# Altium footprint library IEEE-802.14.4.PcbLib: 20 footprints (part 1 of 2)
Each footprint in its own frame and in the unit in brackets; x right, y up, seen from the top. Pads: shape width x height; smd on the part's side, far side on the other; paste and mask are expansions set on the pad; w line width, h text height; cw(c..) or ccw(c..) is an arc to the next point about the centre after c.
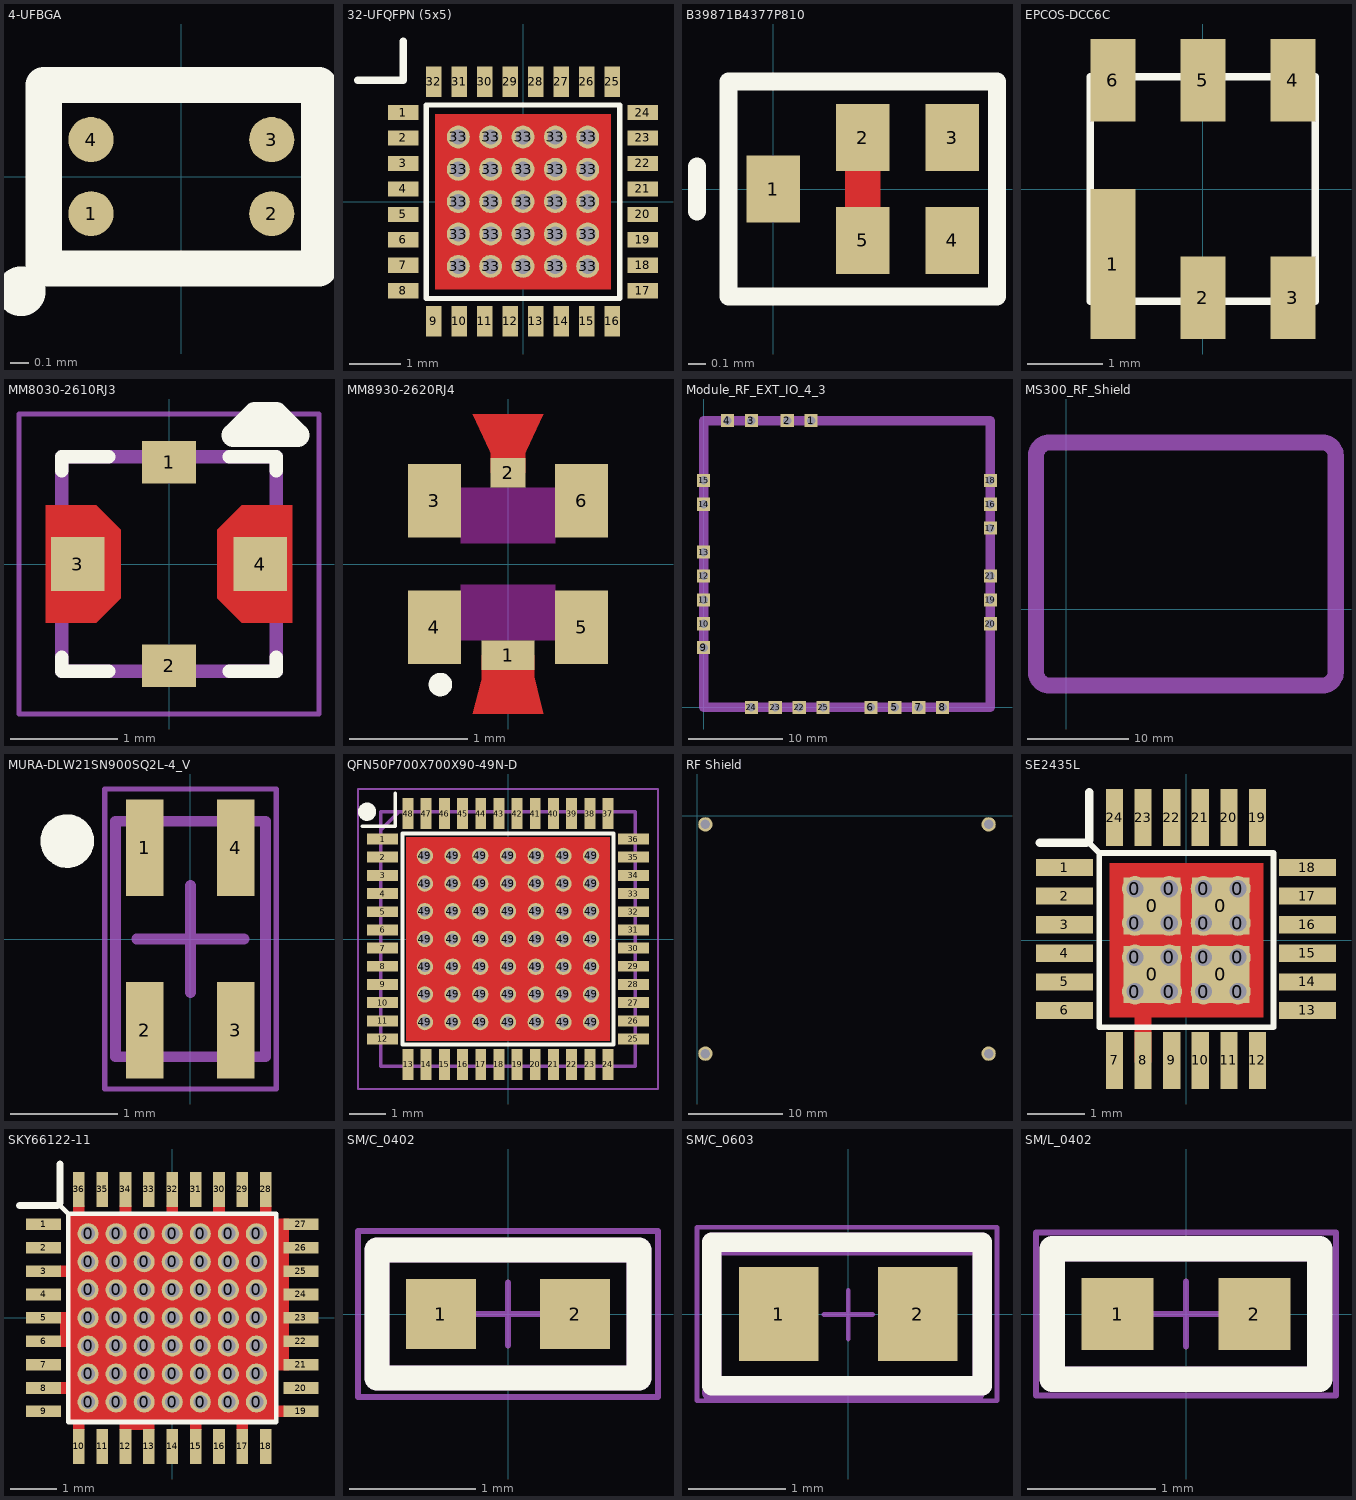
[diagram p0: the footprints below, top view; thin cyan lines are the x and y axes]

## 4-UFBGA [mm] "SiT1552 TCXO CSPBGA"
height 0.6
pads (4):
  round 0.25 smd mask+0.05: 1(-0.5,-0.205) 2(0.5,-0.205) 3(0.5,0.205) 4(-0.5,0.205)
Top Overlay:
  circle w0.254: c-0.889,-0.635 r0.01
  lines w0.2: -0.762,-0.508 -0.762,0.508 0.762,0.508 0.762,-0.508 -0.762,-0.508
3D body "CSP4-TCXO.STEP": height 0.6, standoff 0.01, extent -0.77,-0.42 0.77,0.42

## 32-UFQFPN (5x5) [mm]
pads (57):
  rect 0.6x0.3 smd: 1(-2.35,1.75) 2(-2.35,1.25) 3(-2.35,0.75) 4(-2.35,0.25) 5(-2.35,-0.25) 6(-2.35,-0.75) 7(-2.35,-1.25) 8(-2.35,-1.75) 17(2.35,-1.75) 18(2.35,-1.25) 19(2.35,-0.75) 20(2.35,-0.25) 21(2.35,0.25) 22(2.35,0.75) 23(2.35,1.25) 24(2.35,1.75)
  rect 0.3x0.6 smd: 9(-1.75,-2.35) 10(-1.25,-2.35) 11(-0.75,-2.35) 12(-0.25,-2.35) 13(0.25,-2.35) 14(0.75,-2.35) 15(1.25,-2.35) 16(1.75,-2.35) 25(1.75,2.35) 26(1.25,2.35) 27(0.75,2.35) 28(0.25,2.35) 29(-0.25,2.35) 30(-0.75,2.35) 31(-1.25,2.35) 32(-1.75,2.35)
  round 0.45 hole 0.3: 33(-1.27,-1.27) 33(-1.27,-0.635) 33(-1.27,0) 33(-1.27,0.635) 33(-1.27,1.27) 33(-0.635,-1.27) 33(-0.635,-0.635) 33(-0.635,0) 33(-0.635,0.635) 33(-0.635,1.27) 33(0,-1.27) 33(0,-0.635) 33(0,0) 33(0,0.635) 33(0,1.27) 33(0.635,-1.27) 33(0.635,-0.635) 33(0.635,0) 33(0.635,0.635) 33(0.635,1.27) 33(1.27,-1.27) 33(1.27,-0.635) 33(1.27,0) 33(1.27,0.635) 33(1.27,1.27)
Top Layer:
  rectangle: -1.725,-1.725 1.725,1.725
Top Overlay:
  lines w0.1: -1.9,-1.9 1.9,-1.9 1.9,1.9 -1.9,1.9 -1.9,-1.9
  lines w0.15: -3.239,2.385 -2.35,2.385 -2.35,3.147
3D body "32-UFQFPN-5x5.STEP": height 0.55, standoff 0, extent -2.46,-2.54 2.54,2.46

## B39871B4377P810 [mm]
pads (5):
  rect 0.3x0.375 smd: 1(0,0) 2(0.5,0.287) 3(1,0.288) 4(1,-0.288) 5(0.5,-0.288)
Top Layer:
  rectangle: 0.4,-0.15 0.6,0.175
Top Overlay:
  lines w0.1: -0.425,-0.125 -0.425,0.125 ; -0.25,-0.6 1.25,-0.6 1.25,0.6 -0.25,0.6 -0.25,-0.575 -0.25,-0.6
3D body "B39871B4377P810.stp": height 0.55, standoff 0, extent -0.2,-0.55 1.2,0.55

## EPCOS-DCC6C [mm]
pads (6):
  rect 0.6x2 smd: 1(-1.2,-1)
  rect 0.6x1.1 smd: 2(0,-1.45) 3(1.2,-1.45) 4(1.2,1.45) 5(0,1.45) 6(-1.2,1.45)
Top Overlay:
  lines w0.1: -1.5,-1.5 1.5,-1.5 1.5,1.5 -1.5,1.5 -1.5,-1.5
3D body "DCC6C.STEP": height 1.14, standoff -0.09, extent -1.5,-1.5 1.5,1.5

## MM8030-2610RJ3 [mm]
pads (4):
  rect 0.5x0.4 smd paste-1 mask+0: 1(0,0.95) 2(0,-0.95)
  rect 0.5x0.5 smd paste-1 mask+0: 3(-0.85,0) 4(0.85,0)
Top Layer:
  region: -0.45,0.32 -0.45,-0.32 -0.68,-0.55 -1.15,-0.55 -1.15,0.55 -0.68,0.55
  region: 1.15,-0.55 0.68,-0.55 0.45,-0.32 0.45,0.32 0.68,0.55 1.15,0.55
Top Overlay:
  lines w0.127: -1,-0.869 -1,-1 -0.564,-1 ; -1,0.869 -1,1 -0.564,1 ; 0.564,-1 1,-1 1,-0.869 ; 0.564,1 1,1 1,0.869
  lines w0.22: 0.6,1.2 1.2,1.2 1,1.4 0.8,1.4 0.6,1.2 ; 0.6,1.2 0.6,1.2
Top Paste:
  region: -0.59,0.41 -0.59,-0.41 -0.68,-0.5 -1.1,-0.5 -1.1,0.5 -0.68,0.5
  region: 1.1,-0.5 0.68,-0.5 0.59,-0.41 0.59,0.41 0.68,0.5 1.1,0.5
  region: 0.165,-1.15 -0.165,-1.15 -0.165,-0.82 0.165,-0.82
  region: 0.165,0.82 -0.165,0.82 -0.165,1.15 0.165,1.15
Top Solder:
  region: -0.45,0.32 -0.45,-0.32 -0.68,-0.55 -1.15,-0.55 -1.15,0.55 -0.68,0.55
  region: 1.15,-0.55 0.68,-0.55 0.45,-0.32 0.45,0.32 0.68,0.55 1.15,0.55
  region: 0.25,-1.15 -0.25,-1.15 -0.25,-0.75 0.25,-0.75
  region: 0.25,0.75 -0.25,0.75 -0.25,1.15 0.25,1.15
Mechanical 13:
  lines w0.127: -1,-1 1,-1 1,1 -1,1 -1,-1
Mechanical 15:
  lines w0.05: -1.4,-1.4 1.4,-1.4 1.4,1.4 -1.4,1.4 -1.4,-1.4
3D body "MM8030-2610RJ3--3DModel-STEP-56544.STEP": height 0.9, standoff 0, extent -1,-1.05 1,1.05

## MM8930-2620RJ4 [mm]
pads (6):
  rect 0.45x0.25 smd mask+0: 1(0,-0.775)
  rect 0.3x0.25 smd mask+0: 2(0,0.775)
  rect 0.45x0.625 smd mask+0: 3(-0.625,0.537) 4(-0.625,-0.537) 5(0.625,-0.537) 6(0.625,0.537)
Top Layer:
  rectangle: -0.225,-1.275 0.225,-0.775
  rectangle: -0.15,0.775 0.15,1.275
  region: -0.2,-0.9 -0.2,-1.275 -0.3,-1.275
  region: 0.2,-0.875 0.2,-1.025 0.2,-1.275 0.3,-1.275
  region: -0.15,0.9
  region: 0.125,0.9 0.125,1.275 0.3,1.275
  region: -0.125,0.9 -0.125,1.275 -0.3,1.275
Top Layer keep-out:
  region: -0.4,0.65 0.4,0.65 0.4,0.175 -0.4,0.175
  region: -0.4,-0.175 0.4,-0.175 0.4,-0.65 -0.4,-0.65
Top Overlay:
  circle w0.1: c-0.575,-1.025 r0.05
Top Solder:
  rectangle: -0.425,0.225 0.425,0.85
  rectangle: -0.425,-0.85 0.425,-0.225

## Module_RF_EXT_IO_4_3 [mm] "Footprint pour le module RF 4.3"
height 0.86
pads (25):
  rect 1.4x1.4 / inner round 1.25 / far side rect 1.6x3 hole 0.9: 1(11.43,30.48) 2(8.89,30.48) 3(5.08,30.48) 4(2.54,30.48) 5(20.32,0) 6(17.78,0) 7(22.86,0) 8(25.4,0) 22(10.16,0) 23(7.62,0) 24(5.08,0) 25(12.7,0)
  rect 1.4x1.4 / inner round 1.25 / far side rect 3x1.6 hole 0.9: 9(0,6.35) 10(0,8.89) 11(0,11.43) 12(0,13.97) 13(0,16.51) 14(0,21.59) 15(0,24.13) 16(30.48,21.59) 17(30.48,19.05) 18(30.48,24.13) 19(30.48,11.43) 20(30.48,8.89) 21(30.48,13.97)
Mechanical 1:
  lines w1: 0,0 0,30.48 30.48,30.48 30.48,0 0,0

## MS300_RF_Shield [mm]
height 3.5
Top Paste:
  lines w1.5: -2.975,-6.2 ccw(c-1.625,-6.2) -1.625,-7.55 25.375,-7.55 ccw(c25.375,-6.2) 26.725,-6.2 26.725,15.2 ccw(c25.375,15.2) 25.375,16.55 -1.625,16.55 ccw(c-1.625,15.2) -2.975,15.2 -2.975,-6.2
Top Solder:
  lines w1.6: -3,-6.2 ccw(c-1.65,-6.2) -1.65,-7.55 25.35,-7.55 ccw(c25.35,-6.2) 26.7,-6.2 26.7,15.2 ccw(c25.35,15.2) 25.35,16.55 -1.65,16.55 ccw(c-1.65,15.2) -3,15.2 -3,-6.2

## MURA-DLW21SN900SQ2L-4_V [mm] "SMD, 4-Leads, Body 2.2x1.4mm"
height 1.4
pads (4):
  rect 0.35x0.9 smd: 1(-0.425,0.85) 2(-0.425,-0.85) 3(0.425,-0.85) 4(0.425,0.85)
Top Overlay:
  circle w0.25: c-1.15,0.914 r0.125
Mechanical 13:
  lines w0.1: -0.7,-1.1 0.7,-1.1 0.7,1.1 -0.7,1.1 -0.7,-1.1
Mechanical 15:
  lines w0.05: -0.8,-1.4 0.8,-1.4 0.8,1.4 -0.8,1.4 -0.8,-1.4
  lines w0.1: -0.5,0 0.5,0 ; 0,-0.5 0,0.5
3D body: height 1.4, standoff 0, extent -0.7,-1.1 0.7,1.1

## QFN50P700X700X90-49N-D [mm]
pads (97):
  rect 0.85x0.3 smd: 1(-3.45,2.75) 2(-3.45,2.25) 3(-3.45,1.75) 4(-3.45,1.25) 5(-3.45,0.75) 6(-3.45,0.25) 7(-3.45,-0.25) 8(-3.45,-0.75) 9(-3.45,-1.25) 10(-3.45,-1.75) 11(-3.45,-2.25) 12(-3.45,-2.75) 25(3.45,-2.75) 26(3.45,-2.25) 27(3.45,-1.75) 28(3.45,-1.25) 29(3.45,-0.75) 30(3.45,-0.25) 31(3.45,0.25) 32(3.45,0.75) 33(3.45,1.25) 34(3.45,1.75) 35(3.45,2.25) 36(3.45,2.75)
  rect 0.3x0.85 smd: 13(-2.75,-3.45) 14(-2.25,-3.45) 15(-1.75,-3.45) 16(-1.25,-3.45) 17(-0.75,-3.45) 18(-0.25,-3.45) 19(0.25,-3.45) 20(0.75,-3.45) 21(1.25,-3.45) 22(1.75,-3.45) 23(2.25,-3.45) 24(2.75,-3.45) 37(2.75,3.45) 38(2.25,3.45) 39(1.75,3.45) 40(1.25,3.45) 41(0.75,3.45) 42(0.25,3.45) 43(-0.25,3.45) 44(-0.75,3.45) 45(-1.25,3.45) 46(-1.75,3.45) 47(-2.25,3.45) 48(-2.75,3.45)
  round 0.45 hole 0.3: 49(-2.286,-2.286) 49(-2.286,-1.524) 49(-2.286,-0.762) 49(-2.286,0) 49(-2.286,0.762) 49(-2.286,1.524) 49(-2.286,2.286) 49(-1.524,-2.286) 49(-1.524,-1.524) 49(-1.524,-0.762) 49(-1.524,0) 49(-1.524,0.762) 49(-1.524,1.524) 49(-1.524,2.286) 49(-0.762,-2.286) 49(-0.762,-1.524) 49(-0.762,-0.762) 49(-0.762,0) 49(-0.762,0.762) 49(-0.762,1.524) 49(-0.762,2.286) 49(0,-2.286) 49(0,-1.524) 49(0,-0.762) 49(0,0) 49(0,0.762) 49(0,1.524) 49(0,2.286) 49(0.762,-2.286) 49(0.762,-1.524) 49(0.762,-0.762) 49(0.762,0) 49(0.762,0.762) 49(0.762,1.524) 49(0.762,2.286) 49(1.524,-2.286) 49(1.524,-1.524) 49(1.524,-0.762) 49(1.524,0) 49(1.524,0.762) 49(1.524,1.524) 49(1.524,2.286) 49(2.286,-2.286) 49(2.286,-1.524) 49(2.286,-0.762) 49(2.286,0) 49(2.286,0.762) 49(2.286,1.524) 49(2.286,2.286)
Top Layer:
  region: -2.794,2.794 2.794,2.794 2.794,-2.794 -2.794,-2.794
Top Overlay:
  circle w0.25: c-3.875,3.5 r0.125
  lines w0.1: -4,3.1 -3.1,3.1 -3.1,4 ; -2.9,-2.9 2.9,-2.9 2.9,2.9 -2.9,2.9 -2.9,-2.9
Mechanical 13:
  lines w0.1: -3.5,3 -3,3.5 ; -3.5,-3.5 3.5,-3.5 3.5,3.5 -3.5,3.5 -3.5,-3.5
Mechanical 15:
  lines w0.05: -4.125,-4.125 4.125,-4.125 4.125,4.125 -4.125,4.125 -4.125,-4.125
3D body "AT86RF215-ZU.stp": height 0.9, standoff 0, extent -3.55,-3.55 3.55,3.55

## RF Shield [mil]
pads (4):
  round 60 hole 39.37: ""(35,-990) ""(35,-35) ""(1215,-990) ""(1215,-35)
Top Paste:
  rectangle: 1053.15,-62.99 1250,0
  rectangle: 0,-1025 196.85,-962.01
  rectangle: 0,-1025 62.99,-828.15
  rectangle: 1187.01,-196.85 1250,0
  rectangle: 0,-62.99 196.85,0
  rectangle: 0,-196.85 62.99,0
  rectangle: 1187.01,-600 1250,-475
  region: 500,-62.99 500,0 375,0 375,-62.99
  region: 850,-62.99 850,0 725,0 725,-62.99
  region: 500,-1025 500,-962.01 375,-962.01 375,-1025
  region: 850,-1025 850,-962.01 725,-962.01 725,-1025
  rectangle: 0,-525 62.99,-400
  rectangle: 1053.15,-1025 1250,-962.01
  rectangle: 1187.01,-1025 1250,-828.15
  rectangle: 1187.01,-1025 1250,-828.15
  rectangle: 1053.15,-1025 1250,-962.01
  rectangle: 0,-525 62.99,-400
  region: 850,-1025 850,-962.01 725,-962.01 725,-1025
  region: 500,-1025 500,-962.01 375,-962.01 375,-1025
  region: 850,-62.99 850,0 725,0 725,-62.99
  region: 500,-62.99 500,0 375,0 375,-62.99
  rectangle: 1187.01,-600 1250,-475
  rectangle: 0,-196.85 62.99,0
  rectangle: 0,-62.99 196.85,0
  rectangle: 1187.01,-196.85 1250,0
  rectangle: 0,-1025 62.99,-828.15
  rectangle: 0,-1025 196.85,-962.01
  rectangle: 1053.15,-62.99 1250,0
  rectangle: 1053.15,-62.99 1250,0
  rectangle: 0,-1025 196.85,-962.01
  rectangle: 0,-1025 62.99,-828.15
  rectangle: 1187.01,-196.85 1250,0
  rectangle: 0,-62.99 196.85,0
  rectangle: 0,-196.85 62.99,0
  rectangle: 1187.01,-600 1250,-475
  region: 500,-62.99 500,0 375,0 375,-62.99
  region: 850,-62.99 850,0 725,0 725,-62.99
  region: 500,-1025 500,-962.01 375,-962.01 375,-1025
  region: 850,-1025 850,-962.01 725,-962.01 725,-1025
  rectangle: 0,-525 62.99,-400
  rectangle: 1053.15,-1025 1250,-962.01
  rectangle: 1187.01,-1025 1250,-828.15
  rectangle: 1187.01,-1025 1250,-828.15
  rectangle: 1053.15,-1025 1250,-962.01
  rectangle: 0,-525 62.99,-400
  region: 850,-1025 850,-962.01 725,-962.01 725,-1025
  region: 500,-1025 500,-962.01 375,-962.01 375,-1025
  region: 850,-62.99 850,0 725,0 725,-62.99
  region: 500,-62.99 500,0 375,0 375,-62.99
  rectangle: 1187.01,-600 1250,-475
  rectangle: 0,-196.85 62.99,0
  rectangle: 0,-62.99 196.85,0
  rectangle: 1187.01,-196.85 1250,0
  rectangle: 0,-1025 62.99,-828.15
  rectangle: 0,-1025 196.85,-962.01
  rectangle: 1053.15,-62.99 1250,0
  rectangle: 1053.15,-62.99 1250,0
  rectangle: 0,-1025 196.85,-962.01
  rectangle: 0,-1025 62.99,-828.15
  rectangle: 1187.01,-196.85 1250,0
  rectangle: 0,-62.99 196.85,0
  rectangle: 0,-196.85 62.99,0
  rectangle: 1187.01,-600 1250,-475
  region: 500,-62.99 500,0 375,0 375,-62.99
  region: 850,-62.99 850,0 725,0 725,-62.99
  region: 500,-1025 500,-962.01 375,-962.01 375,-1025
  region: 850,-1025 850,-962.01 725,-962.01 725,-1025
  rectangle: 0,-525 62.99,-400
  rectangle: 1053.15,-1025 1250,-962.01
  rectangle: 1187.01,-1025 1250,-828.15
  rectangle: 1187.01,-1025 1250,-828.15
  rectangle: 1053.15,-1025 1250,-962.01
  rectangle: 0,-525 62.99,-400
  region: 850,-1025 850,-962.01 725,-962.01 725,-1025
  region: 500,-1025 500,-962.01 375,-962.01 375,-1025
  region: 850,-62.99 850,0 725,0 725,-62.99
  region: 500,-62.99 500,0 375,0 375,-62.99
  rectangle: 1187.01,-600 1250,-475
  rectangle: 0,-196.85 62.99,0
  rectangle: 0,-62.99 196.85,0
  rectangle: 1187.01,-196.85 1250,0
  rectangle: 0,-1025 62.99,-828.15
  rectangle: 0,-1025 196.85,-962.01
  rectangle: 1053.15,-62.99 1250,0
  rectangle: 1053.15,-62.99 1250,0
  rectangle: 0,-1025 196.85,-962.01
  rectangle: 0,-1025 62.99,-828.15
  rectangle: 1187.01,-196.85 1250,0
  rectangle: 0,-62.99 196.85,0
  rectangle: 0,-196.85 62.99,0
  rectangle: 1187.01,-600 1250,-475
  region: 500,-62.99 500,0 375,0 375,-62.99
  region: 850,-62.99 850,0 725,0 725,-62.99
  region: 500,-1025 500,-962.01 375,-962.01 375,-1025
  region: 850,-1025 850,-962.01 725,-962.01 725,-1025
  rectangle: 0,-525 62.99,-400
  rectangle: 1053.15,-1025 1250,-962.01
  rectangle: 1187.01,-1025 1250,-828.15
  rectangle: 1187.01,-1025 1250,-828.15
  rectangle: 1053.15,-1025 1250,-962.01
  rectangle: 0,-525 62.99,-400
  region: 850,-1025 850,-962.01 725,-962.01 725,-1025
  region: 500,-1025 500,-962.01 375,-962.01 375,-1025
  region: 850,-62.99 850,0 725,0 725,-62.99
  region: 500,-62.99 500,0 375,0 375,-62.99
  rectangle: 1187.01,-600 1250,-475
  rectangle: 0,-196.85 62.99,0
  rectangle: 0,-62.99 196.85,0
  rectangle: 1187.01,-196.85 1250,0
  rectangle: 0,-1025 62.99,-828.15
  rectangle: 0,-1025 196.85,-962.01
  rectangle: 1053.15,-62.99 1250,0
Top Solder:
  rectangle: 1053.15,-62.99 1250,0
  rectangle: 1053.15,-62.99 1250,0
  rectangle: 1053.15,-62.99 1250,0
  rectangle: 1053.15,-62.99 1250,0
  rectangle: 1053.15,-62.99 1250,0
  rectangle: 1053.15,-62.99 1250,0
  rectangle: 1053.15,-62.99 1250,0
  rectangle: 1053.15,-62.99 1250,0
  rectangle: 1053.15,-1025 1250,-962.01
  rectangle: 1053.15,-1025 1250,-962.01
  rectangle: 1053.15,-1025 1250,-962.01
  rectangle: 1053.15,-1025 1250,-962.01
  rectangle: 1053.15,-1025 1250,-962.01
  rectangle: 1053.15,-1025 1250,-962.01
  rectangle: 1053.15,-1025 1250,-962.01
  rectangle: 1053.15,-1025 1250,-962.01
  rectangle: 1187.01,-1025 1250,-828.15
  rectangle: 1187.01,-1025 1250,-828.15
  rectangle: 1187.01,-1025 1250,-828.15
  rectangle: 1187.01,-1025 1250,-828.15
  rectangle: 1187.01,-1025 1250,-828.15
  rectangle: 1187.01,-1025 1250,-828.15
  rectangle: 1187.01,-1025 1250,-828.15
  rectangle: 1187.01,-1025 1250,-828.15
  rectangle: 0,-1025 62.99,-828.15
  rectangle: 0,-1025 62.99,-828.15
  rectangle: 0,-1025 62.99,-828.15
  rectangle: 0,-1025 62.99,-828.15
  rectangle: 0,-1025 62.99,-828.15
  rectangle: 0,-1025 62.99,-828.15
  rectangle: 0,-1025 62.99,-828.15
  rectangle: 0,-1025 62.99,-828.15
  rectangle: 1187.01,-600 1250,-475
  rectangle: 1187.01,-600 1250,-475
  rectangle: 1187.01,-600 1250,-475
  rectangle: 1187.01,-600 1250,-475
  rectangle: 1187.01,-600 1250,-475
  rectangle: 1187.01,-600 1250,-475
  rectangle: 1187.01,-600 1250,-475
  rectangle: 1187.01,-600 1250,-475
  rectangle: 1187.01,-196.85 1250,0
  rectangle: 1187.01,-196.85 1250,0
  rectangle: 1187.01,-196.85 1250,0
  rectangle: 1187.01,-196.85 1250,0
  rectangle: 1187.01,-196.85 1250,0
  rectangle: 1187.01,-196.85 1250,0
  rectangle: 1187.01,-196.85 1250,0
  rectangle: 1187.01,-196.85 1250,0
  region: 850,-62.99 850,0 725,0 725,-62.99
  region: 850,-62.99 850,0 725,0 725,-62.99
  region: 850,-62.99 850,0 725,0 725,-62.99
  region: 850,-62.99 850,0 725,0 725,-62.99
  region: 850,-62.99 850,0 725,0 725,-62.99
  region: 850,-62.99 850,0 725,0 725,-62.99
  region: 850,-62.99 850,0 725,0 725,-62.99
  region: 850,-62.99 850,0 725,0 725,-62.99
  region: 850,-1025 850,-962.01 725,-962.01 725,-1025
  region: 850,-1025 850,-962.01 725,-962.01 725,-1025
  region: 850,-1025 850,-962.01 725,-962.01 725,-1025
  region: 850,-1025 850,-962.01 725,-962.01 725,-1025
  region: 850,-1025 850,-962.01 725,-962.01 725,-1025
  region: 850,-1025 850,-962.01 725,-962.01 725,-1025
  region: 850,-1025 850,-962.01 725,-962.01 725,-1025
  region: 850,-1025 850,-962.01 725,-962.01 725,-1025
  region: 500,-62.99 500,0 375,0 375,-62.99
  region: 500,-62.99 500,0 375,0 375,-62.99
  region: 500,-62.99 500,0 375,0 375,-62.99
  region: 500,-62.99 500,0 375,0 375,-62.99
  region: 500,-62.99 500,0 375,0 375,-62.99
  region: 500,-62.99 500,0 375,0 375,-62.99
  region: 500,-62.99 500,0 375,0 375,-62.99
  region: 500,-62.99 500,0 375,0 375,-62.99
  region: 500,-1025 500,-962.01 375,-962.01 375,-1025
  region: 500,-1025 500,-962.01 375,-962.01 375,-1025
  region: 500,-1025 500,-962.01 375,-962.01 375,-1025
  region: 500,-1025 500,-962.01 375,-962.01 375,-1025
  region: 500,-1025 500,-962.01 375,-962.01 375,-1025
  region: 500,-1025 500,-962.01 375,-962.01 375,-1025
  region: 500,-1025 500,-962.01 375,-962.01 375,-1025
  region: 500,-1025 500,-962.01 375,-962.01 375,-1025
  rectangle: 0,-62.99 196.85,0
  rectangle: 0,-196.85 62.99,0
  rectangle: 0,-196.85 62.99,0
  rectangle: 0,-62.99 196.85,0
  rectangle: 0,-62.99 196.85,0
  rectangle: 0,-196.85 62.99,0
  rectangle: 0,-196.85 62.99,0
  rectangle: 0,-62.99 196.85,0
  rectangle: 0,-62.99 196.85,0
  rectangle: 0,-196.85 62.99,0
  rectangle: 0,-196.85 62.99,0
  rectangle: 0,-62.99 196.85,0
  rectangle: 0,-62.99 196.85,0
  rectangle: 0,-196.85 62.99,0
  rectangle: 0,-196.85 62.99,0
  rectangle: 0,-62.99 196.85,0
  rectangle: 0,-525 62.99,-400
  rectangle: 0,-525 62.99,-400
  rectangle: 0,-525 62.99,-400
  rectangle: 0,-525 62.99,-400
  rectangle: 0,-525 62.99,-400
  rectangle: 0,-525 62.99,-400
  rectangle: 0,-525 62.99,-400
  rectangle: 0,-525 62.99,-400
  rectangle: 0,-1025 196.85,-962.01
  rectangle: 0,-1025 196.85,-962.01
  rectangle: 0,-1025 196.85,-962.01
  rectangle: 0,-1025 196.85,-962.01
  rectangle: 0,-1025 196.85,-962.01
  rectangle: 0,-1025 196.85,-962.01
  rectangle: 0,-1025 196.85,-962.01
  rectangle: 0,-1025 196.85,-962.01

## SE2435L [mm]
pads (44):
  round 0.45 hole 0.3: 0(-0.9,-0.9) 0(-0.9,-0.3) 0(-0.9,0.3) 0(-0.9,0.9) 0(-0.3,-0.9) 0(-0.3,-0.3) 0(-0.3,0.3) 0(-0.3,0.9) 0(0.3,-0.9) 0(0.3,-0.3) 0(0.3,0.3) 0(0.3,0.9) 0(0.9,-0.9) 0(0.9,-0.3) 0(0.9,0.3) 0(0.9,0.9)
  rect 1x1 smd: 0(-0.6,-0.6) 0(-0.6,0.6) 0(0.6,-0.6) 0(0.6,0.6)
  rect 1x0.3 smd: 1(-2.132,1.27) 2(-2.132,0.77) 3(-2.132,0.27) 4(-2.132,-0.23) 5(-2.132,-0.73) 6(-2.132,-1.23) 13(2.118,-1.23) 14(2.118,-0.73) 15(2.118,-0.23) 16(2.118,0.27) 17(2.118,0.77) 18(2.118,1.27)
  rect 0.3x1 smd: 7(-1.257,-2.105) 8(-0.757,-2.105) 9(-0.257,-2.105) 10(0.243,-2.105) 11(0.743,-2.105) 12(1.243,-2.105) 19(1.243,2.145) 20(0.743,2.145) 21(0.243,2.145) 22(-0.257,2.145) 23(-0.757,2.145) 24(-1.257,2.145)
Top Layer:
  rectangle: -1.35,-1.35 1.35,1.35
  lines w0.3: -0.757,-2.105 -0.757,-0.868
Top Overlay:
  lines w0.1: -1.726,1.727 -1.524,1.524 ; -1.524,1.524 1.524,1.524 1.524,-1.524 -1.524,-1.524 -1.524,1.524
  lines w0.15: -2.564,1.702 -1.751,1.702 -1.7,1.753 -1.7,2.591
Top Solder:
  rectangle: -1.25,-1.25 1.25,1.25
3D body "QFN24(4X4).STEP": height 0.91, standoff 0.01, extent -2.01,-2.01 2.01,2.01

## SKY66122-11 [mm]
pads (85):
  round 0.45 hole 0.3: 0(-1.8,-1.8) 0(-1.8,-1.2) 0(-1.8,-0.6) 0(-1.8,0) 0(-1.8,0.6) 0(-1.8,1.2) 0(-1.8,1.8) 0(-1.2,-1.8) 0(-1.2,-1.2) 0(-1.2,-0.6) 0(-1.2,0) 0(-1.2,0.6) 0(-1.2,1.2) 0(-1.2,1.8) 0(-0.6,-1.8) 0(-0.6,-1.2) 0(-0.6,-0.6) 0(-0.6,0) 0(-0.6,0.6) 0(-0.6,1.2) 0(-0.6,1.8) 0(0,-1.8) 0(0,-1.2) 0(0,-0.6) 0(0,0) 0(0,0.6) 0(0,1.2) 0(0,1.8) 0(0.6,-1.8) 0(0.6,-1.2) 0(0.6,-0.6) 0(0.6,0) 0(0.6,0.6) 0(0.6,1.2) 0(0.6,1.8) 0(1.2,-1.8) 0(1.2,-1.2) 0(1.2,-0.6) 0(1.2,0) 0(1.2,0.6) 0(1.2,1.2) 0(1.2,1.8) 0(1.8,-1.8) 0(1.8,-1.2) 0(1.8,-0.6) 0(1.8,0) 0(1.8,0.6) 0(1.8,1.2) 0(1.8,1.8)
  rect 0.75x0.25 smd mask+0.075: 1(-2.75,2) 2(-2.75,1.5) 3(-2.75,1) 4(-2.75,0.5) 5(-2.75,0) 6(-2.75,-0.5) 7(-2.75,-1) 8(-2.75,-1.5) 9(-2.75,-2) 19(2.75,-2) 20(2.75,-1.5) 21(2.75,-1) 22(2.75,-0.5) 23(2.75,0) 24(2.75,0.5) 25(2.75,1) 26(2.75,1.5) 27(2.75,2)
  rect 0.25x0.75 smd mask+0.075: 10(-2,-2.75) 11(-1.5,-2.75) 12(-1,-2.75) 13(-0.5,-2.75) 14(0,-2.75) 15(0.5,-2.75) 16(1,-2.75) 17(1.5,-2.75) 18(2,-2.75) 28(2,2.75) 29(1.5,2.75) 30(1,2.75) 31(0.5,2.75) 32(0,2.75) 33(-0.5,2.75) 34(-1,2.75) 35(-1.5,2.75) 36(-2,2.75)
Top Layer:
  rectangle: -2.4,0.875 -2.1,1.125
  rectangle: -2.4,-0.625 -2.1,0.125
  rectangle: -2.4,-1.625 -2,-1.375
  rectangle: -2.125,-2.4 -1.875,-2.1
  rectangle: -1.125,-2.4 -0.375,-2.1
  rectangle: 0.375,-2.4 0.625,-2.1
  rectangle: 1.375,-2.4 1.625,-2.1
  rectangle: 2.1,-2.125 2.4,-1.875
  rectangle: 1.9,-1.125 2.5,2.125
  rectangle: -2.2,-2.2 2.2,2.2
  rectangle: -2.125,2.1 -1.875,2.4
  rectangle: -1.125,2.1 -0.875,2.4
  rectangle: -0.125,2.1 0.125,2.4
  rectangle: 0.875,2.1 1.125,2.4
  rectangle: 1.875,2.1 2.125,2.4
Top Overlay:
  lines w0.1: -2.426,2.427 -2.224,2.224 ; -2.224,-2.225 2.225,-2.225 2.225,2.224 -2.224,2.224 ; -2.224,-2.225 -2.224,2.224 ; -2.224,-2.225 -2.224,-2.225
  lines w0.15: -3.264,2.402 -2.451,2.402 -2.4,2.453 -2.4,3.291
Top Solder:
  rectangle: -2,-2 2,2
3D body "QFN-36-1EP_6x6mm_P0.5mm_EP4.1x4.1mm.step": height 1.1, standoff 0, extent -3,-3 3,3

## SM/C_0402 [mil]
pads (2):
  rect 22x22 smd: 1(-21,0) 2(21,0)
Top Overlay:
  lines w7.87: -41,-20 41,-20 41,20 -41,20 -41,-20
Mechanical 11:
  text ".designator" at -43.31,-19.68 h19.68
Mechanical 13:
  lines w7.87: -41,-20 -41,20 41,20 41,-20 -41,-20
Mechanical 15:
  lines w1.97: 0,0 0,9.84 0,0 ; 0,0 -9.84,0 0,0 ; 0,0 9.85,0 0,0 ; 0,0 0,-9.85 0,0 ; -47,-26 47,-26 47,26 -47,26 -47,-26
3D body "User Library-cap_0402.step": height 19.68, standoff 0, extent -19.68,-9.84 19.7,9.85

## SM/C_0603 [mil]
pads (2):
  rect 32x38 smd: 1(-28,0) 2(28,0)
Top Overlay:
  lines w7.87: -55,-29 -55,29 54,29 54,-29 -55,-29
Mechanical 11:
  lines w7.87: -55.12,-31.5 51.18,-31.5 ; -55.12,27.56 51.18,27.56
  text ".designator" at -55.12,-19.68 h39.37
Mechanical 13:
  lines w7.87: -55,-29 54,-29 54,29 -55,29 -55,-29
Mechanical 15:
  lines w1.97: -0.01,-0.26 -0.01,9.58 -0.01,-0.26 ; -0.01,-0.26 -9.85,-0.26 -0.01,-0.26 ; -0.01,-0.26 9.84,-0.26 -0.01,-0.26 ; -0.01,-0.26 -0.01,-10.1 -0.01,-0.26 ; -61,-35 60,-35 60,35 -61,35 -61,-35
3D body "User Library-cap_0603-1.STEP": height 31.5, standoff 0, extent -31.5,-16 31.5,15.49

## SM/L_0402 [mil]
pads (2):
  rect 22x22 smd: 1(-21,0) 2(21,0)
Top Overlay:
  lines w7.87: -41,-20 41,-20 41,20 -41,20 -41,-20
Mechanical 11:
  text ".designator" at -43.31,-19.68 h19.68
Mechanical 13:
  lines w7.87: -41,-20 -41,20 41,20 41,-20 -41,-20
Mechanical 15:
  lines w1.97: 0,0 0,9.84 0,0 ; 0,0 -9.84,0 0,0 ; 0,0 9.84,0 0,0 ; 0,0 0,-9.84 0,0 ; -46,-25 -46,25 46,25 46,-25 -46,-25
3D body "User Library-cap_0402.STEP": height 19.68, standoff 0, extent -19.68,-9.84 19.69,9.85